# Altium footprint library Connectors.PcbLib: 19 footprints (part 1 of 2)
Each footprint in its own frame and in the unit in brackets; x right, y up, seen from the top. Pads: shape width x height; smd on the part's side, far side on the other; paste and mask are expansions set on the pad; w line width, h text height; cw(c..) or ccw(c..) is an arc to the next point about the centre after c.
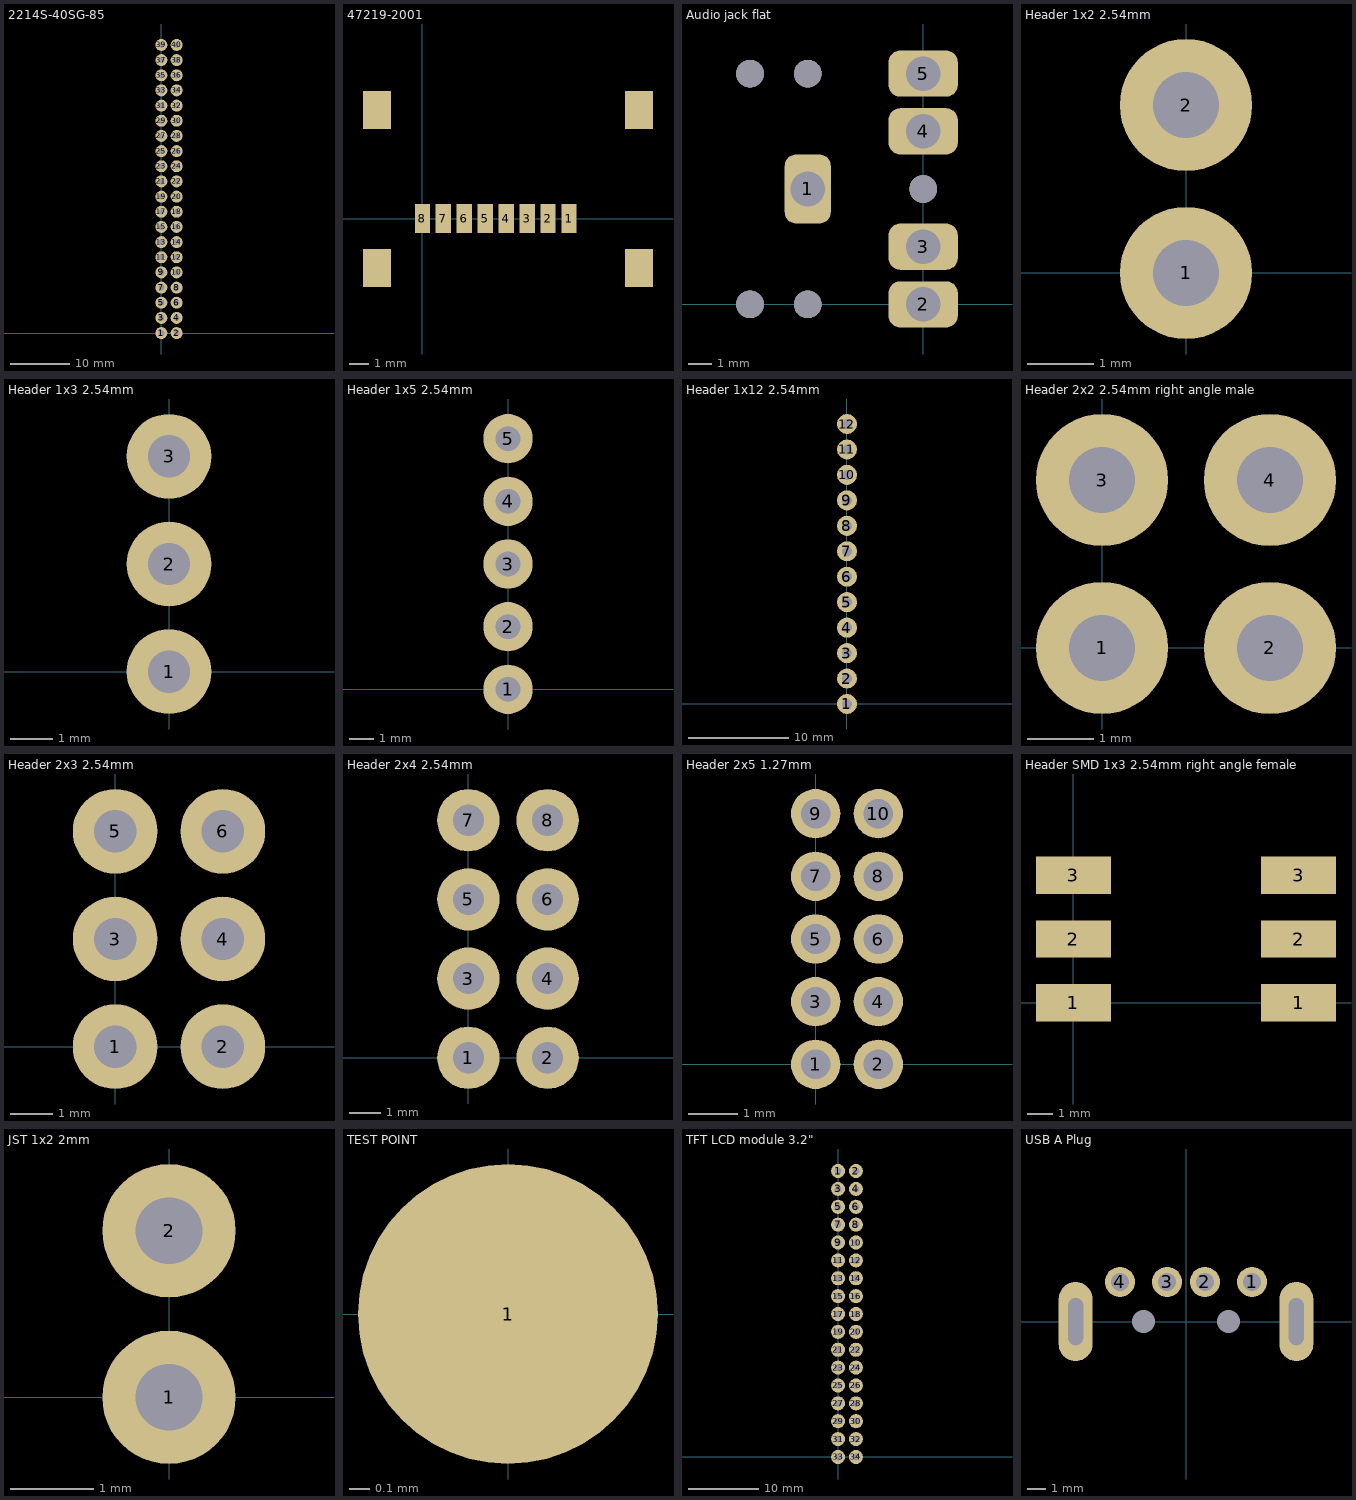
[diagram p0: the footprints below, top view; thin cyan lines are the x and y axes]

## 2214S-40SG-85 [mm]
pads (40):
  round 2 hole 1: 1(0,0) 2(2.54,0) 3(0,2.54) 4(2.54,2.54) 5(0,5.08) 6(2.54,5.08) 7(0,7.62) 8(2.54,7.62) 9(0,10.16) 10(2.54,10.16) 11(0,12.7) 12(2.54,12.7) 13(0,15.24) 14(2.54,15.24) 15(0,17.78) 16(2.54,17.78) 17(0,20.32) 18(2.54,20.32) 19(0,22.86) 20(2.54,22.86) 21(0,25.4) 22(2.54,25.4) 23(0,27.94) 24(2.54,27.94) 25(0,30.48) 26(2.54,30.48) 27(0,33.02) 28(2.54,33.02) 29(0,35.56) 30(2.54,35.56) 31(0,38.1) 32(2.54,38.1) 33(0,40.64) 34(2.54,40.64) 35(0,43.18) 36(2.54,43.18) 37(0,45.72) 38(2.54,45.72) 39(0,48.26) 40(2.54,48.26)
3D body "User Library-Header 2x20 2_54mm.step": height 8.5, standoff -2.6, extent -1.25,-1.48 3.75,49.62

## 47219-2001 [mm]
pads (12):
  rect 0.8x1.5 smd: 1(7.7,0) 2(6.6,0) 3(5.5,0) 4(4.4,0) 5(3.3,0) 6(2.2,0) 7(1.1,0) 8(0,0)
  rect 1.45x2 smd: ""(-2.38,-2.6) ""(-2.38,5.7) ""(11.37,-2.6) ""(11.37,5.7)
3D body "693072010801.stp": height 1.77, standoff 0, extent -2.75,-4.2 11.75,9.5
3D body "User Library-Micro_SD.step": height 1.75, standoff 0.77, extent -1.25,-6.4 9.75,8.6

## Audio jack flat [mm]
pads (10):
  rrect50% 2x3 hole 1.5: 1(-5,5)
  rrect50% 3x2 hole 1.5: 2(0,0) 3(0,2.5) 4(0,7.5) 5(0,10)
  round 1.2 hole 1.2: ""(-7.5,0) ""(-7.5,10) ""(-5,0) ""(-5,10) ""(0,5)
3D body "sj1-3523ng.stp": height 5.6, standoff -3.2, extent -11.575,-0.95 2.475,11.05

## Header 1x2 2.54mm [mm]
pads (2):
  round 2 hole 1: 1(0,0) 2(0,2.54)
3D body "CircuitWorks-HEADER 2_54 VERTICAL 2X.STEP": height 8.55, standoff -2.45, extent -1.25,-1.27 1.25,3.81

## Header 1x3 2.54mm [mm]
pads (3):
  round 2 hole 1: 1(0,0) 2(0,2.54) 3(0,5.08)
3D body "User Library-1x3 TH Pitch 2_54mm.STEP": height 9.2, standoff -3.5, extent -1.27,-1.27 1.27,6.35

## Header 1x5 2.54mm [mm]
pads (5):
  round 2 hole 1: 1(0,0) 2(0,2.54) 3(0,5.08) 4(0,7.62) 5(0,10.16)
3D body "female_header_a-bl254-eg-g05d.stp": height 8.5, standoff -3.2, extent -1.25,-1.35 1.25,11.6

## Header 1x12 2.54mm [mm]
pads (12):
  round 2 hole 1: 1(0,0) 2(0,2.54) 3(0,5.08) 4(0,7.62) 5(0,10.16) 6(0,12.7) 7(0,15.24) 8(0,17.78) 9(0,20.32) 10(0,22.86) 11(0,25.4) 12(0,27.94)
3D body "female_header_a-bl254-eg-g12d.stp": height 8.5, standoff -3.2, extent -1.25,-1.35 1.25,29.38

## Header 2x2 2.54mm right angle male [mm]
pads (4):
  round 2 hole 1: 1(0,0) 2(2.54,0) 3(0,2.54) 4(2.54,2.54)
3D body "Pin Header 2x2 TH Angle Pitch 2.54mm.stp": height 5.63, standoff -3.2, extent -1.27,-10.883 3.81,2.855

## Header 2x3 2.54mm [mm]
pads (6):
  round 2 hole 1: 1(0,0) 2(2.54,0) 3(0,2.54) 4(2.54,2.54) 5(0,5.08) 6(2.54,5.08)
3D body "User Library-HEADER, 2X3, 2_54MM X 2_54MM PITCH, VERT, TH.STEP": height 8.38, standoff -3.81, extent -1.27,-1.27 3.81,6.35

## Header 2x4 2.54mm [mm]
pads (8):
  round 2 hole 1: 1(0,0) 2(2.54,0) 3(0,2.54) 4(2.54,2.54) 5(0,5.08) 6(2.54,5.08) 7(0,7.62) 8(2.54,7.62)
3D body "User Library-2x4 female header 2_54mm pitch.step": height 4.5, standoff -3.15, extent -1.28,-1.28 3.8,8.88

## Header 2x5 1.27mm [mm]
pads (10):
  round 1 hole 0.6: 1(0,0) 2(1.27,0) 3(0,1.27) 4(1.27,1.27) 5(0,2.54) 6(1.27,2.54) 7(0,3.81) 8(1.27,3.81) 9(0,5.08) 10(1.27,5.08)
3D body "2002111100010t8lf.stp": height 5.5, standoff -2.35, extent -1.05,-0.635 2.35,5.715

## Header SMD 1x3 2.54mm right angle female [mm]
pads (6):
  rect 3x1.5 smd: 1(0,0) 1(9,0) 2(0,2.54) 2(9,2.54) 3(0,5.08) 3(9,5.08)
3D body "SSM-103-L-SH-TR.stp": height 3.2, standoff 0.02, extent -0.999,-1.25 9.999,6.37

## JST 1x2 2mm [mm]
pads (2):
  round 1.6 hole 0.8: 1(0,0) 2(0,2)
3D body "User Library-b2b-ph-ks-1.step": height 6, standoff -3, extent -1.65,-1.95 2.85,3.95

## TEST POINT [mm]
pads (1):
  round 1.5 smd: 1(0,0)

## TFT LCD module 3.2" [mm]
pads (34):
  round 2 hole 1: 1(0,40.64) 2(2.54,40.64) 3(0,38.1) 4(2.54,38.1) 5(0,35.56) 6(2.54,35.56) 7(0,33.02) 8(2.54,33.02) 9(0,30.48) 10(2.54,30.48) 11(0,27.94) 12(2.54,27.94) 13(0,25.4) 14(2.54,25.4) 15(0,22.86) 16(2.54,22.86) 17(0,20.32) 18(2.54,20.32) 19(0,17.78) 20(2.54,17.78) 21(0,15.24) 22(2.54,15.24) 23(0,12.7) 24(2.54,12.7) 25(0,10.16) 26(2.54,10.16) 27(0,7.62) 28(2.54,7.62) 29(0,5.08) 30(2.54,5.08) 31(0,2.54) 32(2.54,2.54) 33(0,0) 34(2.54,0)
3D body "SFH11-xxPC-D17-ST-BK.STEP": height 8.5, standoff -3.2, extent -2.85,-3.75 4.25,44.35

## USB A Plug [mm]
pads (8):
  round 1.6 hole 0.95: 1(3.5,2.1) 2(1,2.1) 3(-1,2.1) 4(-3.5,2.1)
  round 0 hole 1.2: 10(-2.25,0) 10(2.25,0)
  oval 1.8x4.2 hole 2.5 slot 0.8 at 0 deg: ""(-5.85,0) ""(5.85,0)
3D body "up2-ah-1-th.stp": height 3.35, standoff -3, extent -6.3,-17.8 6.3,2.2